# EAGLE library part UM232H (library 0myLib)
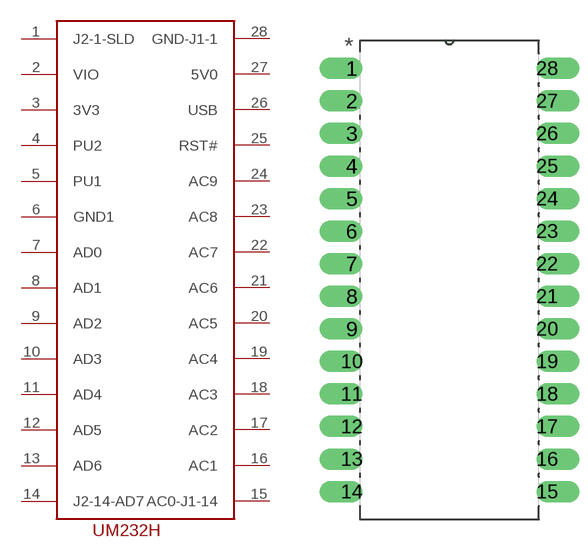
[diagram p58: symbol with the pads of DIP254P1524X482-28; footprint DIP254P1524X482-28]

Designator prefix -

## UM232H  [DIP254P1524X482-28]
1  J2-1-SLD
2  VIO
3  3V3
4  PU2
5  PU1
6  GND1
7  AD0
8  AD1
9  AD2
10  AD3
11  AD4
12  AD5
13  AD6
14  J2-14-AD7
15  AC0-J1-14
16  AC1
17  AC2
18  AC3
19  AC4
20  AC5
21  AC6
22  AC7
23  AC8
24  AC9
25  RST#
26  USB
27  5V0
28  GND-J1-1

## Footprint DIP254P1524X482-28 (pad centres in mm)
drill 1.118 offset: 1 -15.24,33.02; 2 -15.24,30.48; 3 -15.24,27.94; 4 -15.24,25.4; 5 -15.24,22.86; 6 -15.24,20.32; 7 -15.24,17.78; 8 -15.24,15.24; 9 -15.24,12.7; 10 -15.24,10.16; 11 -15.24,7.62; 12 -15.24,5.08; 13 -15.24,2.54; 14 -15.24,0; 15 0,0; 16 0,2.54; 17 0,5.08; 18 0,7.62; 19 0,10.16; 20 0,12.7; 21 0,15.24; 22 0,17.78; 23 0,20.32; 24 0,22.86; 25 0,25.4; 26 0,27.94; 27 0,30.48; 28 0,33.02